# Altium schematic symbol library Tile01.SchLib: 1 symbol
Pins are listed as number, name and electrical type; pins without a type are passive.

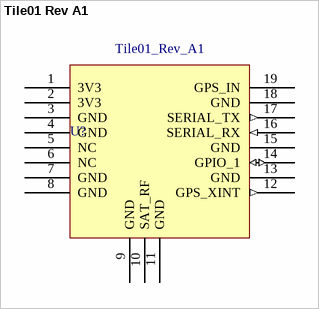
[diagram p0: symbol Tile01 Rev A1]

## Tile01 Rev A1
designator U?  MANUF1 P/N: Tile01_Rev_A1
SWARM: Tile01 Rev A1 VHF; MANUF1: SWARM; Voltage: 3V3; TEMP: -40°C ~ 85°C (TA); Size: MOD; Supplier: Swarm; Value: VHF
footprint Tile01 Rev A1 (Footprint not found)
pins: 1 3V3 (power), 2 3V3 (power), 3 GND (power), 4 GND, 5 NC (power), 6 NC (power), 7 GND (power), 8 GND (power), 9 GND (power), 10 SAT_RF, 11 GND (power), 12 GPS_XINT (out), 13 GND (power), 14 GPIO_1 (io), 15 GND (power), 16 SERIAL_RX (in), 17 SERIAL_TX (out), 18 GND (power), 19 GPS_IN